# EAGLE library part XC9572XL-* (library apple-mini)
Xilinx XC9572XL High Performance CPLD The XC9572XL is a 3.3V CPLD targeted for high-performance, low-voltage applications in leading-edge communications and computing systems. It is comprised of four 54V18 Function Blocks, providing 1,600 usable gates with propagation delays of 5 ns. Source: http://www.xilinx.com/support/documentation/data_sheets/ds057.pdf
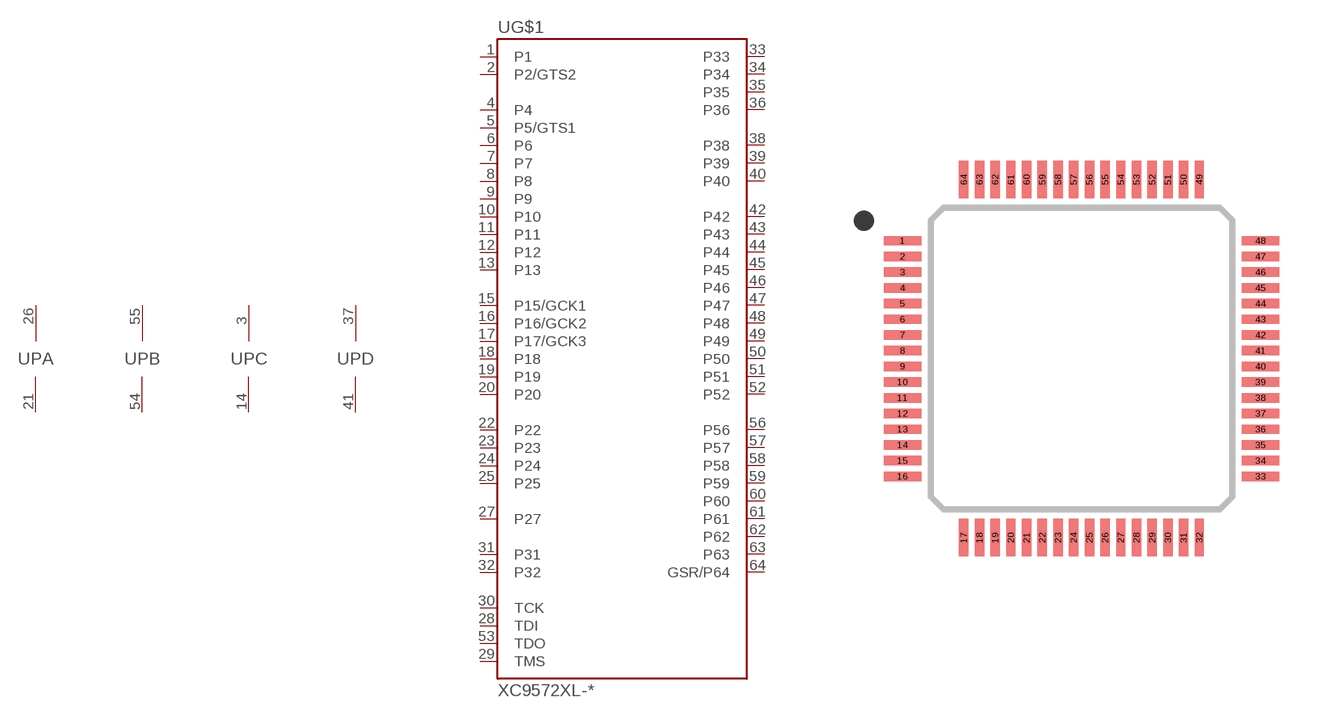
[diagram p4: symbol with the pads of VQFP64; footprint VQFP64]

Designator prefix U; gates G$1=XC9572XL PA=PWRN PB=PWRN PC=PWRN PD=PWRN

## XC9572XL-10VQ64 (MFR: Xilinx; MFR_PARTNO: XC9572XL-10VQG64C)  [VQFP64]
1  G$1:P1
2  G$1:P2/GTS2
3  PC:VCC  pwr
4  G$1:P4
5  G$1:P5/GTS1
6  G$1:P6
7  G$1:P7
8  G$1:P8
9  G$1:P9
10  G$1:P10
11  G$1:P11
12  G$1:P12
13  G$1:P13
14  PC:GND  pwr
15  G$1:P15/GCK1
16  G$1:P16/GCK2
17  G$1:P17/GCK3
18  G$1:P18
19  G$1:P19
20  G$1:P20
21  PA:GND  pwr
22  G$1:P22
23  G$1:P23
24  G$1:P24
25  G$1:P25
26  PA:VCC  pwr
27  G$1:P27
28  G$1:TDI  in
29  G$1:TMS  in
30  G$1:TCK  in
31  G$1:P31
32  G$1:P32
33  G$1:P33
34  G$1:P34
35  G$1:P35
36  G$1:P36
37  PD:VCC  pwr
38  G$1:P38
39  G$1:P39
40  G$1:P40
41  PD:GND  pwr
42  G$1:P42
43  G$1:P43
44  G$1:P44
45  G$1:P45
46  G$1:P46
47  G$1:P47
48  G$1:P48
49  G$1:P49
50  G$1:P50
51  G$1:P51
52  G$1:P52
53  G$1:TDO  out
54  PB:GND  pwr
55  PB:VCC  pwr
56  G$1:P56
57  G$1:P57
58  G$1:P58
59  G$1:P59
60  G$1:P60
61  G$1:P61
62  G$1:P62
63  G$1:P63
64  G$1:GSR/P64

## Footprint VQFP64 (pad centres in mm)
Very small Quad Flat Pack
smd 1.2 x 0.3: 1 -5.7,3.75; 2 -5.7,3.25; 3 -5.7,2.75; 4 -5.7,2.25; 5 -5.7,1.75; 6 -5.7,1.25; 7 -5.7,0.75; 8 -5.7,0.25; 9 -5.7,-0.25; 10 -5.7,-0.75; 11 -5.7,-1.25; 12 -5.7,-1.75; 13 -5.7,-2.25; 14 -5.7,-2.75; 15 -5.7,-3.25; 16 -5.7,-3.75; 33 5.7,-3.75; 34 5.7,-3.25; 35 5.7,-2.75; 36 5.7,-2.25; 37 5.7,-1.75; 38 5.7,-1.25; 39 5.7,-0.75; 40 5.7,-0.25; 41 5.7,0.25; 42 5.7,0.75; 43 5.7,1.25; 44 5.7,1.75; 45 5.7,2.25; 46 5.7,2.75; 47 5.7,3.25; 48 5.7,3.75
smd 0.3 x 1.2: 17 -3.75,-5.7; 18 -3.25,-5.7; 19 -2.75,-5.7; 20 -2.25,-5.7; 21 -1.75,-5.7; 22 -1.25,-5.7; 23 -0.75,-5.7; 24 -0.25,-5.7; 25 0.25,-5.7; 26 0.75,-5.7; 27 1.25,-5.7; 28 1.75,-5.7; 29 2.25,-5.7; 30 2.75,-5.7; 31 3.25,-5.7; 32 3.75,-5.7; 49 3.75,5.7; 50 3.25,5.7; 51 2.75,5.7; 52 2.25,5.7; 53 1.75,5.7; 54 1.25,5.7; 55 0.75,5.7; 56 0.25,5.7; 57 -0.25,5.7; 58 -0.75,5.7; 59 -1.25,5.7; 60 -1.75,5.7; 61 -2.25,5.7; 62 -2.75,5.7; 63 -3.25,5.7; 64 -3.75,5.7